# EAGLE library part PIC12F629 (library digital)
PIC12F629: 8-bit CMOS microcontroller (Microchip) 2.0-5.5V, 1024 words flash ROM, 64 bytes RAM, 128 bytes EEPROM
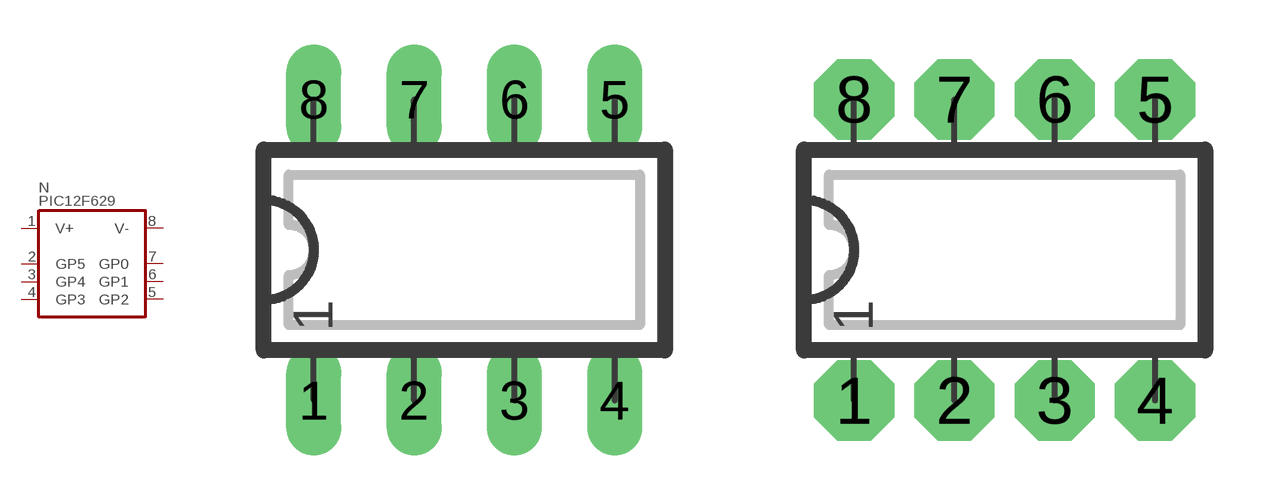
[diagram p56: symbol with the pads of DIP08L; footprints DIP08L, DIP08N]

Designator prefix N

## PIC12F629  [DIP08L]
1  V+  pwr
2  GP5
3  GP4
4  GP3
5  GP2
6  GP1
7  GP0
8  V-  pwr

## PIC12F629L  [DIP08L]
Pads as for DIP08L

## PIC12F629N  [DIP08N]
Pads as for DIP08L

## PIC12F629R  [DIP08R]
Pads as for DIP08L

## PIC12F629S  [SO08]
Pads as for DIP08L

## Footprint DIP08L (pad centres in mm)
DIP-8, long pads Standard IC package, 8 pins
drill 0.813 pad 1.397 long: 1 0,0; 2 2.54,0; 3 5.08,0; 4 7.62,0; 5 7.62,7.62; 6 5.08,7.62; 7 2.54,7.62; 8 0,7.62

## Footprint DIP08N (pad centres in mm)
DIP-8 Standard IC package, 8 pins
drill 0.813 pad 2.032 octagon: 1 0,0; 2 2.54,0; 3 5.08,0; 4 7.62,0; 5 7.62,7.62; 6 5.08,7.62; 7 2.54,7.62; 8 0,7.62

## Footprint DIP08R (pad centres in mm)
DIP-8, reduced pads Standard IC package, 8 pins
drill 0.813 pad 1.397 square: 1 0,0; 2 2.54,0; 3 5.08,0; 4 7.62,0; 5 7.62,7.62; 6 5.08,7.62; 7 2.54,7.62; 8 0,7.62

## Footprint SO08 (pad centres in mm)
SO-8, SMD SOIC IC package, 8 pins
smd 0.635 x 1.778: 1 -1.905,-2.857; 2 -0.635,-2.857; 3 0.635,-2.857; 4 1.905,-2.857; 5 1.905,2.857; 6 0.635,2.857; 7 -0.635,2.857; 8 -1.905,2.857